# Altium footprint library Ant_V1_PCB.PcbLib: 18 footprints (part 2 of 2)
Each footprint in its own frame and in the unit in brackets; x right, y up, seen from the top. Pads: shape width x height; smd on the part's side, far side on the other; paste and mask are expansions set on the pad; w line width, h text height; cw(c..) or ccw(c..) is an arc to the next point about the centre after c.
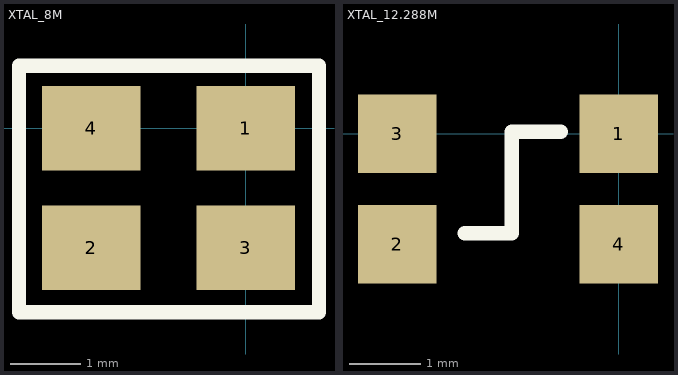
[diagram p1: the footprints below, top view; thin cyan lines are the x and y axes]

## XTAL_8M [mm]
pads (4):
  rect 1.4x1.2 smd: 1(0,0) 2(-2.2,-1.7) 3(0,-1.7) 4(-2.2,0)
Top Overlay:
  lines w0.203: -3.226,-2.616 1.041,-2.616 1.041,0.889 -3.226,0.889 -3.226,-2.616

## XTAL_12.288M [mm]
height 2.54
pads (4):
  rect 1.1x1.1 smd: 1(0,0) 2(-3.103,-1.552) 3(-3.103,0) 4(0,-1.552)
Top Overlay:
  lines w0.203: -2.159,-1.397 -1.499,-1.397 -1.499,0.025 -0.813,0.025